# Altium footprint library 端口PCB.PcbLib: 10 footprints
Each footprint in its own frame and in the unit in brackets; x right, y up, seen from the top. Pads: shape width x height; smd on the part's side, far side on the other; paste and mask are expansions set on the pad; w line width, h text height; cw(c..) or ccw(c..) is an arc to the next point about the centre after c.
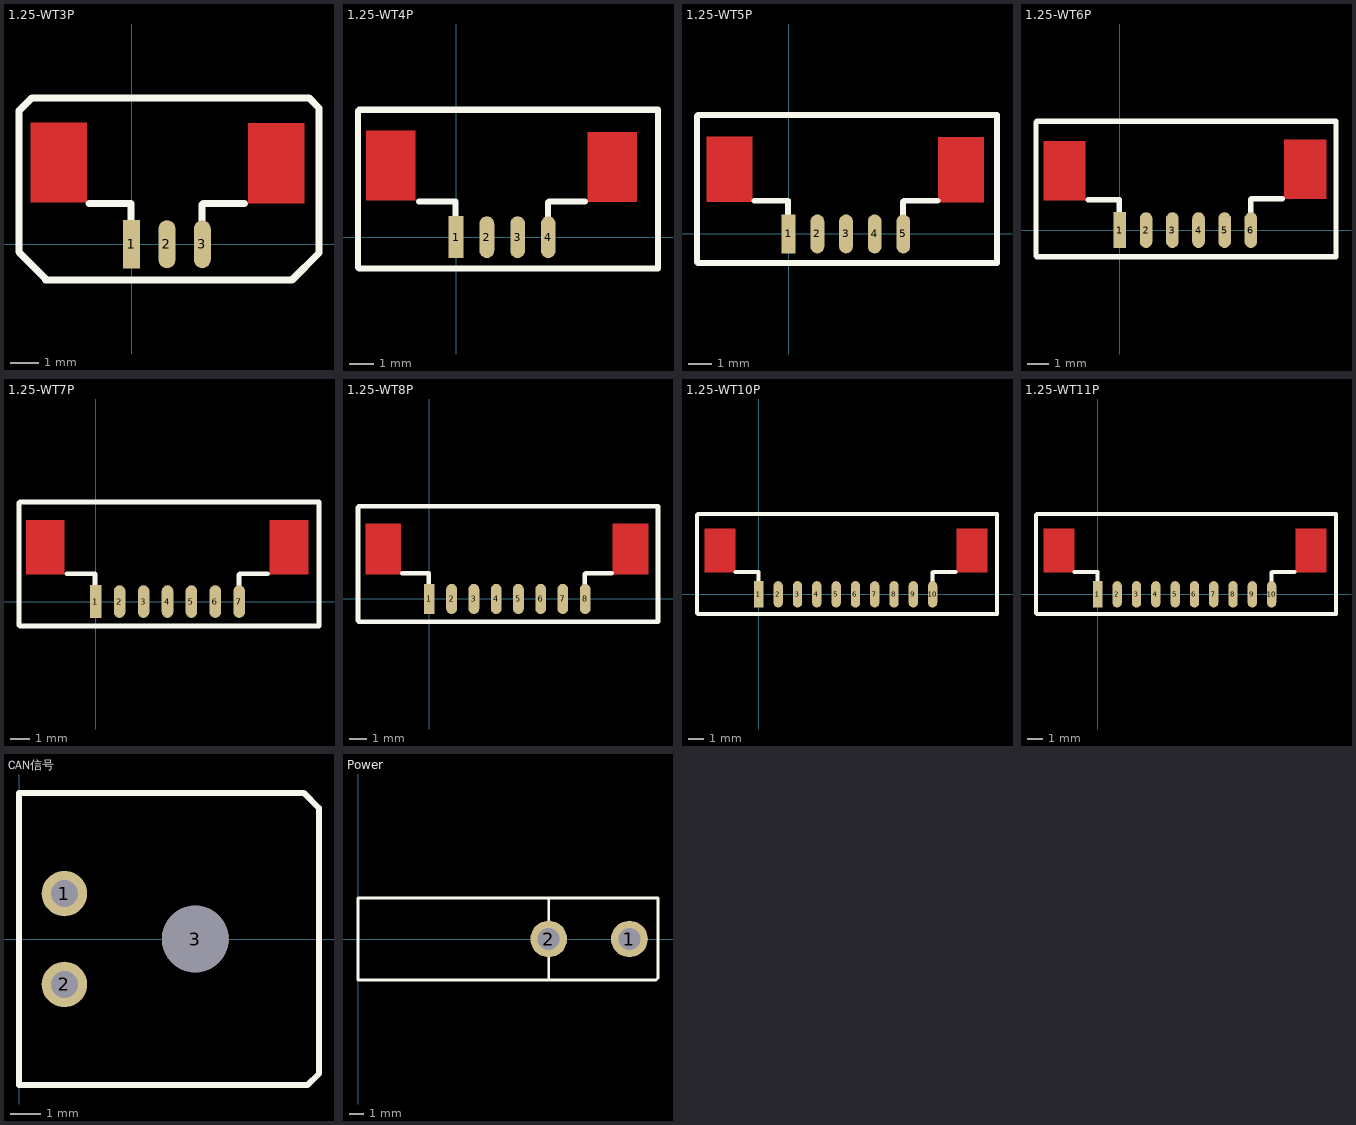
[diagram p0: the footprints below, top view; thin cyan lines are the x and y axes]

## 1.25-WT3P [mm]
pads (3):
  rect 0.6x1.7 smd: 1(0,0)
  oval 0.6x1.7 smd: 2(1.25,0) 3(2.5,0)
Top Layer:
  rectangle: 4.115,1.448 6.121,4.293
  rectangle: -3.581,1.473 -1.575,4.318
Top Overlay:
  lines w0.254: -3.048,-1.27 5.664,-1.27 6.629,-0.305 6.629,4.826 6.274,5.182 -3.531,5.182 -3.988,4.724 -3.988,-0.279 -3.048,-1.219 ; -1.499,1.448 -0.051,1.448 ; -0.025,0.051 -0.025,1.448 ; 2.489,0 2.489,1.397 2.54,1.448 3.988,1.448
Top Solder:
  rectangle: 4.013,1.473 6.02,4.318
  rectangle: -3.581,1.473 -1.575,4.318

## 1.25-WT4P [mm]
pads (4):
  rect 0.6x1.7 smd: 1(0,0)
  oval 0.6x1.7 smd: 2(1.25,0) 3(2.5,0) 4(3.745,0)
Top Layer:
  rectangle: 5.334,1.422 7.341,4.267
  rectangle: -3.658,1.499 -1.651,4.343
Top Overlay:
  lines w0.254: -1.499,1.448 -0.051,1.448 ; -0.025,0.051 -0.025,1.448 ; 3.734,0 3.734,1.397 3.785,1.448 5.232,1.448 ; -3.988,-1.219 -3.988,5.131 -3.937,5.182 7.722,5.182 8.204,5.182 8.204,-1.27 -3.937,-1.27 -3.988,-1.219
Top Solder:
  rectangle: 5.334,1.422 7.341,4.267
  rectangle: -3.658,1.499 -1.651,4.343

## 1.25-WT5P [mm]
pads (5):
  rect 0.6x1.7 smd: 1(0,0)
  oval 0.6x1.7 smd: 2(1.25,0) 3(2.5,0) 4(3.745,0) 5(4.989,0)
Top Layer:
  rectangle: -3.581,1.397 -1.575,4.242
  rectangle: 6.502,1.372 8.509,4.216
Top Overlay:
  lines w0.254: -1.499,1.448 -0.051,1.448 ; -0.025,0.051 -0.025,1.448 ; 4.978,0 4.978,1.397 5.029,1.448 6.477,1.448 ; -3.988,-1.219 -3.988,5.131 -3.937,5.182 7.722,5.182 9.068,5.182 9.068,-1.27 -3.937,-1.27 -3.988,-1.219
Top Solder:
  rectangle: -3.581,1.397 -1.575,4.242
  rectangle: 6.502,1.372 8.509,4.216

## 1.25-WT6P [mm]
pads (6):
  rect 0.6x1.7 smd: 1(0,0)
  oval 0.6x1.7 smd: 2(1.25,0) 3(2.5,0) 4(3.745,0) 5(4.989,0) 6(6.234,0)
Top Layer:
  rectangle: -3.632,1.397 -1.626,4.242
  rectangle: 7.823,1.473 9.83,4.318
Top Overlay:
  lines w0.254: -1.499,1.448 -0.051,1.448 ; -0.025,0.051 -0.025,1.448 ; 6.223,0.051 6.223,1.448 6.274,1.499 7.722,1.499 ; -3.988,-1.219 -3.937,-1.27 10.287,-1.27 10.287,5.182 7.722,5.182 -3.937,5.182 -3.988,5.131 -3.988,-1.219
Top Solder:
  rectangle: -3.632,1.397 -1.626,4.242
  rectangle: 7.823,1.473 9.83,4.318

## 1.25-WT7P [mm]
pads (7):
  rect 0.6x1.7 smd: 1(0,0)
  oval 0.6x1.7 smd: 2(1.25,0) 3(2.5,0) 4(3.745,0) 5(4.989,0) 6(6.234,0) 7(7.478,0)
Top Layer:
  rectangle: 9.068,1.397 11.074,4.242
  rectangle: -3.632,1.397 -1.626,4.242
Top Overlay:
  lines w0.254: -1.499,1.448 -0.051,1.448 ; -0.025,0.051 -0.025,1.448 ; 7.468,0 7.468,1.397 7.518,1.448 8.966,1.448 ; -3.988,-1.219 -3.988,5.131 -3.937,5.182 7.722,5.182 11.633,5.182 11.633,-1.27 -3.937,-1.27 -3.988,-1.219
Top Solder:
  rectangle: 9.068,1.397 11.074,4.242
  rectangle: -3.632,1.397 -1.626,4.242

## 1.25-WT8P [mm]
pads (8):
  rect 0.6x1.7 smd: 1(0,0)
  oval 0.6x1.7 smd: 2(1.25,0) 3(2.5,0) 4(3.745,0) 5(4.989,0) 6(6.234,0) 7(7.478,0) 8(8.723,0)
Top Layer:
  rectangle: 10.262,1.372 12.268,4.216
  rectangle: -3.581,1.372 -1.575,4.216
Top Overlay:
  lines w0.254: -1.499,1.448 -0.051,1.448 ; -0.025,0.051 -0.025,1.448 ; 8.712,0 8.712,1.397 8.763,1.448 10.211,1.448 ; -3.988,-1.219 -3.937,-1.27 12.802,-1.27 12.802,5.182 7.722,5.182 -3.937,5.182 -3.988,5.131 -3.988,-1.219
Top Solder:
  rectangle: 10.262,1.372 12.268,4.216
  rectangle: -3.581,1.372 -1.575,4.216

## 1.25-WT10P [mm]
pads (10):
  rect 0.6x1.7 smd: 1(0,0)
  oval 0.6x1.7 smd: 2(1.25,0) 3(2.5,0) 4(3.745,0) 5(4.989,0) 6(6.234,0) 7(7.478,0) 8(8.723,0) 9(9.968,0) 10(11.212,0)
Top Layer:
  rectangle: -3.505,1.397 -1.499,4.242
  rectangle: 12.751,1.397 14.757,4.242
Top Overlay:
  lines w0.254: -1.499,1.448 -0.051,1.448 ; -0.025,0.051 -0.025,1.448 ; 11.201,0 11.201,1.397 11.252,1.448 12.7,1.448 ; -3.988,-1.219 -3.988,5.131 -3.937,5.182 7.722,5.182 15.367,5.182 15.367,-1.27 -3.937,-1.27 -3.988,-1.219
Top Solder:
  rectangle: -3.505,1.397 -1.499,4.242
  rectangle: 12.751,1.397 14.757,4.242

## 1.25-WT11P [mm]
pads (10):
  rect 0.6x1.7 smd: 1(0,0)
  oval 0.6x1.7 smd: 2(1.25,0) 3(2.5,0) 4(3.745,0) 5(4.989,0) 6(6.234,0) 7(7.478,0) 8(8.723,0) 9(9.968,0) 10(11.212,0)
Top Layer:
  rectangle: -3.505,1.397 -1.499,4.242
  rectangle: 12.751,1.397 14.757,4.242
Top Overlay:
  lines w0.254: -1.499,1.448 -0.051,1.448 ; -0.025,0.051 -0.025,1.448 ; 11.201,0 11.201,1.397 11.252,1.448 12.7,1.448 ; -3.988,-1.219 -3.988,5.131 -3.937,5.182 7.722,5.182 15.367,5.182 15.367,-1.27 -3.937,-1.27 -3.988,-1.219
Top Solder:
  rectangle: -3.505,1.397 -1.499,4.242
  rectangle: 12.751,1.397 14.757,4.242

## CAN信号 [mm]
pads (3):
  round 1.5 hole 0.9: 1(1.5,1.5) 2(1.5,-1.5)
  round 2.2 hole 2.2: 3(5.82,0)
Top Overlay:
  lines w0.2: 0,-4.826 0,4.826 9.398,4.826 9.906,4.318 9.906,-4.445 9.525,-4.826 0,-4.826

## Power [mm]
pads (2):
  round 2.5 hole 1.5: 1(18.5,0) 2(13,0)
Top Overlay:
  lines w0.2: 13,-2.8 0,-2.8 0,2.8 13,2.8 ; 13,-2.8 13,2.8 ; 13,-2.8 20.314,-2.8 20.447,-2.667 20.447,2.794 20.441,2.8 13,2.8